# Altium footprint library SignalCommunications.PCBLIB: 466 footprints (part 22 of 30)
Each footprint in its own frame and in the unit in brackets; x right, y up, seen from the top. Pads: shape width x height; smd on the part's side, far side on the other; paste and mask are expansions set on the pad; w line width, h text height; cw(c..) or ccw(c..) is an arc to the next point about the centre after c.
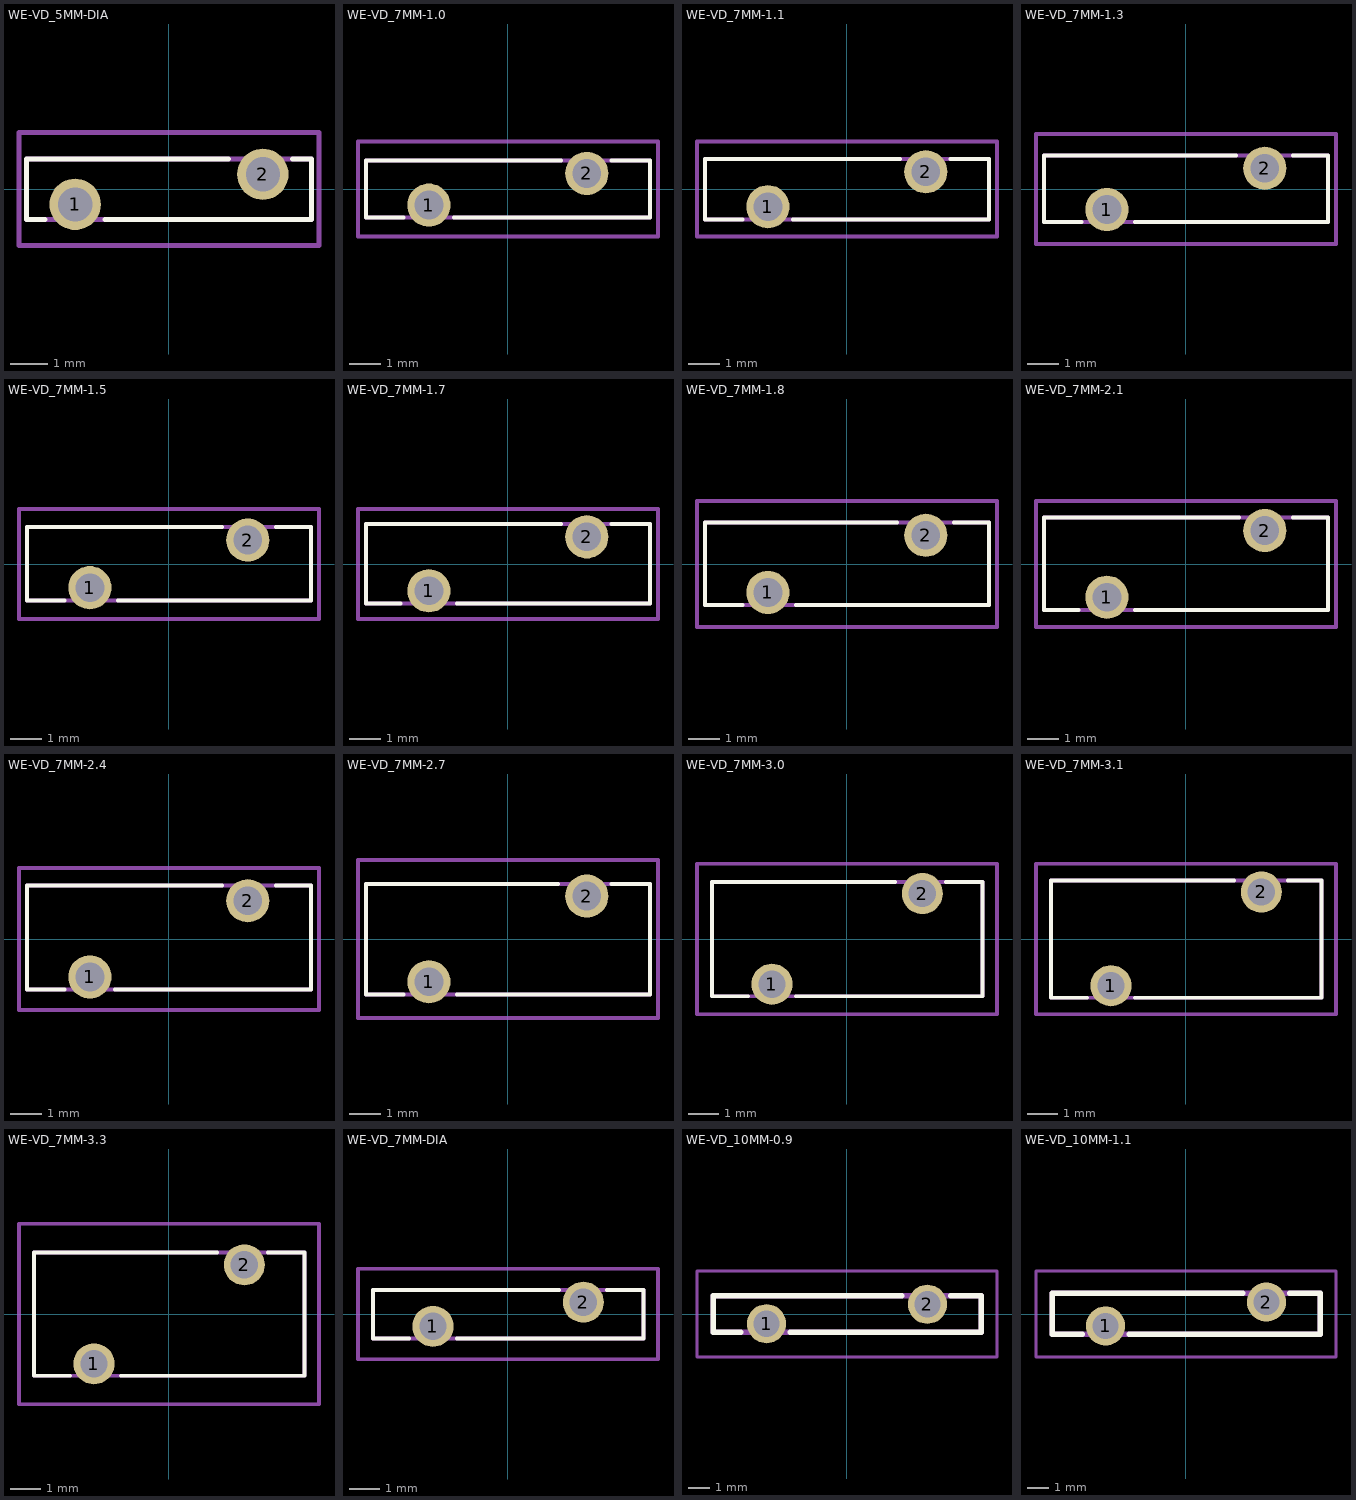
[diagram p21: the footprints below, top view; thin cyan lines are the x and y axes]

## WE-VD_5MM-DIA [mil]
pads (2):
  round 54 hole 36: 1(-98.43,-15.75) 2(99,16)
Top Overlay:
  lines w5: -149.61,-31.5 -149.61,32 ; -147.64,-31.5 -129.92,-31.5 ; -147.64,32 63,32 ; -66.93,-31.5 148,-31.5 ; 130,32 148,32 ; 150,-31.5 150,32
Mechanical 16:
  lines w5: -149.61,-31.5 -149.61,32 150,32 150,-31.5 -149.61,-31.5
Mechanical 27:
  lines w5: -157.48,-59.06 158,-59.06 158,60 -157.48,60 -157.48,-59.06

## WE-VD_7MM-1.0 [mil]
pads (2):
  round 54 hole 36: 1(-98.43,-19.68) 2(99,20)
Top Overlay:
  lines w5: -129.92,-35.43 -177.17,-35.43 -177.17,36 67,36 ; -66.93,-35.43 178,-35.43 178,36 130,36
Mechanical 16:
  lines w5: -177.17,-35.43 -177.17,36 178,36 178,-35.43 -177.17,-35.43
Mechanical 27:
  lines w5: -187.01,-59.06 188,-59.06 188,60 -187.01,60 -187.01,-59.06

## WE-VD_7MM-1.1 [mil]
pads (2):
  round 54 hole 36: 1(-98.43,-21.65) 2(99,22)
Top Overlay:
  lines w5: -129.92,-37.4 -177.17,-37.4 -177.17,38 67,38 ; -66.93,-37.4 178,-37.4 178,38 130,38
Mechanical 16:
  lines w5: -177.17,-37.4 -177.17,38 178,38 178,-37.4 -177.17,-37.4
Mechanical 27:
  lines w5: -187.01,-59.06 188,-59.06 188,60 -187.01,60 -187.01,-59.06

## WE-VD_7MM-1.3 [mil]
pads (2):
  round 54 hole 36: 1(-98.43,-25.59) 2(99,26)
Top Overlay:
  lines w5: -129.92,-41.34 -177.17,-41.34 -177.17,42 63,42 ; -62.99,-41.34 178,-41.34 178,42 134,42
Mechanical 16:
  lines w5: -177.17,-41.34 -177.17,42 178,42 178,-41.34 -177.17,-41.34
Mechanical 27:
  lines w5: -187.01,-68.9 188,-68.9 188,69 -187.01,69 -187.01,-68.9

## WE-VD_7MM-1.5 [mil]
pads (2):
  round 54 hole 36: 1(-98.43,-29.53) 2(99,30)
Top Overlay:
  lines w5: -129.92,-45.28 -177.17,-45.28 -177.17,46 67,46 ; -62.99,-45.28 178,-45.28 178,46 134,46
Mechanical 16:
  lines w5: -177.17,-45.28 178,-45.28 178,46 -177.17,46 -177.17,-45.28
Mechanical 27:
  lines w5: -187.01,-68.9 188,-68.9 188,69 -187.01,69 -187.01,-68.9

## WE-VD_7MM-1.7 [mil]
pads (2):
  round 54 hole 36: 1(-98.43,-33.46) 2(99,34)
Top Overlay:
  lines w5: -133.86,-49.21 -177.17,-49.21 -177.17,50 67,50 ; -62.99,-49.21 178,-49.21 178,50 130,50
Mechanical 16:
  lines w5: -177.17,-49.21 -177.17,50 178,50 178,-49.21 -177.17,-49.21
Mechanical 27:
  lines w5: -187.01,-68.9 -187.01,69 188,69 188,-68.9 -187.01,-68.9

## WE-VD_7MM-1.8 [mil]
pads (2):
  round 54 hole 36: 1(-98.43,-35.43) 2(99,36)
Top Overlay:
  lines w5: -129.92,-51.18 -177.17,-51.18 -177.17,52 63,52 ; -62.99,-51.18 178,-51.18 178,52 134,52
Mechanical 16:
  lines w5: -177.17,-51.18 -177.17,52 178,52 178,-51.18 -177.17,-51.18
Mechanical 27:
  lines w5: -187.01,-78.74 -187.01,79 188,79 188,-78.74 -187.01,-78.74

## WE-VD_7MM-2.1 [mil]
pads (2):
  round 54 hole 36: 1(-98.43,-41.34) 2(99,42)
Top Overlay:
  lines w5: -133.86,-57.09 -177.17,-57.09 -177.17,58 67,58 ; -62.99,-57.09 178,-57.09 178,58 134,58
Mechanical 16:
  lines w5: -177.17,-57.09 178,-57.09 178,58 -177.17,58 -177.17,-57.09
Mechanical 27:
  lines w5: -187.01,-78.74 -187.01,79 188,79 188,-78.74 -187.01,-78.74

## WE-VD_7MM-2.4 [mil]
pads (2):
  round 54 hole 36: 1(-98.43,-47.24) 2(99,48)
Top Overlay:
  lines w5: -129.92,-62.99 -177.17,-62.99 -177.17,67 67,67 ; -66.93,-62.99 178,-62.99 178,67 134,67
Mechanical 16:
  lines w5: -177.17,-62.99 -177.17,67 178,67 178,-62.99 -177.17,-62.99
Mechanical 27:
  lines w5: -187.01,-88.58 -187.01,89 188,89 188,-88.58 -187.01,-88.58

## WE-VD_7MM-2.7 [mil]
pads (2):
  round 54 hole 36: 1(-98.43,-53.15) 2(99,54)
Top Overlay:
  lines w5: -129.92,-68.9 -177.17,-68.9 -177.17,69 63,69 ; -62.99,-68.9 178,-68.9 178,69 130,69
Mechanical 16:
  lines w5: -177.17,-68.9 -177.17,69 178,69 178,-68.9 -177.17,-68.9
Mechanical 27:
  lines w5: -187.01,-98.43 188,-98.43 188,99 -187.01,99 -187.01,-98.43

## WE-VD_7MM-3.0 [mil]
pads (2):
  round 54 hole 36: 1(-98.43,-59.06) 2(99,60)
Top Overlay:
  lines w5: -129.92,-74.8 -177.17,-74.8 -177.17,75 63,75 ; -66.93,-74.8 178,-74.8 178,75 130,75
Mechanical 16:
  lines w5: -177.17,-74.8 178,-74.8 178,75 -177.17,75 -177.17,-74.8
Mechanical 27:
  lines w5: -196.85,-98.43 197,-98.43 197,99 -196.85,99 -196.85,-98.43

## WE-VD_7MM-3.1 [mil]
pads (2):
  round 54 hole 36: 1(-98.43,-61.02) 2(99,62)
Top Overlay:
  lines w5: -129.92,-76.77 -177.17,-76.77 -177.17,77 63,77 ; -66.93,-76.77 178,-76.77 178,77 134,77
Mechanical 16:
  lines w5: -177.17,-76.77 178,-76.77 178,77 -177.17,77 -177.17,-76.77
Mechanical 27:
  lines w5: -196.85,-98.43 197,-98.43 197,99 -196.85,99 -196.85,-98.43

## WE-VD_7MM-3.3 [mil]
pads (2):
  round 54 hole 36: 1(-98.43,-64.96) 2(99,65)
Top Overlay:
  lines w5: -129.92,-80.71 -177.17,-80.71 -177.17,81 63,81 ; -62.99,-80.71 178,-80.71 178,81 130,81
Mechanical 16:
  lines w5: -177.17,-80.71 178,-80.71 178,81 -177.17,81 -177.17,-80.71
Mechanical 27:
  lines w5: -196.85,-118.11 197,-118.11 197,119 -196.85,119 -196.85,-118.11

## WE-VD_7MM-DIA [mil]
pads (2):
  round 54 hole 36: 1(-98.43,-15.75) 2(99,16)
Top Overlay:
  lines w5: -129.92,-31.5 -177.17,-31.5 -177.17,32 67,32 ; -66.93,-31.5 178,-31.5 178,32 130,32
Mechanical 16:
  lines w5: -177.17,-31.5 178,-31.5 178,32 -177.17,32 -177.17,-31.5
Mechanical 27:
  lines w5: -196.85,-59.06 197,-59.06 197,60 -196.85,60 -196.85,-59.06

## WE-VD_10MM-0.9 [mil]
pads (2):
  round 72 hole 48: 1(-147.64,-17.72) 2(148,18)
Top Overlay:
  lines w10: -194.88,-33.46 -246.06,-33.46 -246.06,34 101,34 ; -104.33,-33.46 247,-33.46 247,34 191,34
Mechanical 16:
  lines w10: -246.06,-33.46 -246.06,34 247,34 247,-33.46 -246.06,-33.46
Mechanical 27:
  lines w5: -275.59,-78.74 -275.59,79 276,79 276,-78.74 -275.59,-78.74

## WE-VD_10MM-1.1 [mil]
pads (2):
  round 72 hole 48: 1(-147.64,-21.65) 2(148,22)
Top Overlay:
  lines w10: -190.94,-37.4 -246.06,-37.4 -246.06,38 105,38 ; -104.33,-37.4 247,-37.4 247,38 191,38
Mechanical 16:
  lines w10: -246.06,-37.4 247,-37.4 247,38 -246.06,38 -246.06,-37.4
Mechanical 27:
  lines w5: -275.59,-78.74 -275.59,79 276,79 276,-78.74 -275.59,-78.74